# EAGLE library part KLAVESNICE_3X4 (library #PaJa_prepinace)
Klavesnice - 3x4 KB304 (TME)
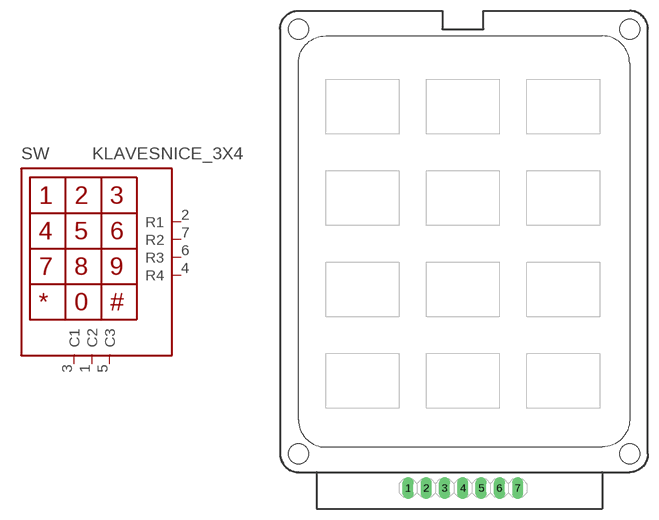
[diagram p8: symbol with the pads of KLAVESNICE_3X4_KB304; footprint KLAVESNICE_3X4_KB304]

Designator prefix SW

## KLAVESNICE_3X4  [KLAVESNICE_3X4_KB304]
1  C2  pas
2  R1  pas
3  C1  pas
4  R4  pas
5  C3  pas
6  R3  pas
7  R2  pas

## Footprint KLAVESNICE_3X4_KB304 (pad centres in mm)
Klavesnice 12tlac. KB304 (TME)
drill 1.016 long: 1 -7.62,-34.29; 2 -5.08,-34.29; 3 -2.54,-34.29; 4 0,-34.29; 5 2.54,-34.29; 6 5.08,-34.29; 7 7.62,-34.29
hole 2.8 at -22.86,-29.527
hole 2.8 at 23.177,-29.527
hole 2.8 at 23.177,29.527
hole 2.8 at -22.86,29.527